# Altium footprint library Package_SO.PcbLib: 1 footprints
Each footprint in its own frame and in the unit in brackets; x right, y up, seen from the top. Pads: shape width x height; smd on the part's side, far side on the other; paste and mask are expansions set on the pad; w line width, h text height; cw(c..) or ccw(c..) is an arc to the next point about the centre after c.
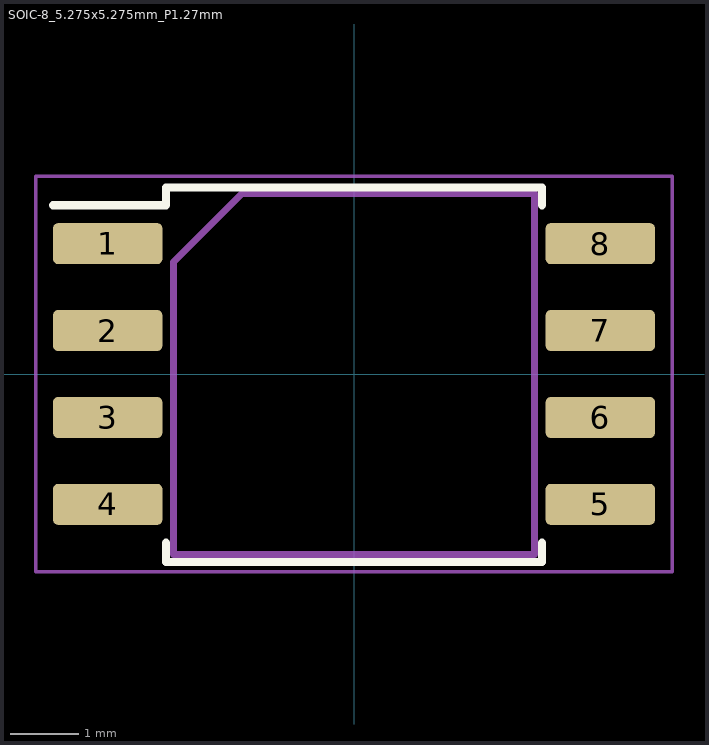
[diagram p0: the footprint, top view; thin cyan lines are the x and y axes]

## SOIC-8_5.275x5.275mm_P1.27mm [mm]
pads (8):
  rrect25% 1.6x0.6 smd: 1(-3.6,1.905) 2(-3.6,0.635) 3(-3.6,-0.635) 4(-3.6,-1.905) 5(3.6,-1.905) 6(3.6,-0.635) 7(3.6,0.635) 8(3.6,1.905)
Top Overlay:
  lines w0.12: -4.4,2.465 -2.748,2.465 -2.748,2.725 2.748,2.725 2.748,2.465 ; -2.748,-2.465 -2.748,-2.748 2.748,-2.748 2.748,-2.465
Mechanical 13:
  lines w0.1: -2.638,-2.638 2.638,-2.638 2.638,2.638 -1.637,2.638 -2.638,1.637 -2.638,-2.638
Mechanical 15:
  lines w0.05: -4.65,-2.89 4.65,-2.89 4.65,2.89 -4.65,2.89 -4.65,-2.89
3D body "SOIC-8_5.275x5.275mm_P1.27mm.step": height 2.05, standoff 0, extent -3.95,-2.638 3.95,2.638